# Altium footprint library PcbLib1.PcbLib: 35 footprints (part 3 of 3)
Each footprint in its own frame and in the unit in brackets; x right, y up, seen from the top. Pads: shape width x height; smd on the part's side, far side on the other; paste and mask are expansions set on the pad; w line width, h text height; cw(c..) or ccw(c..) is an arc to the next point about the centre after c.
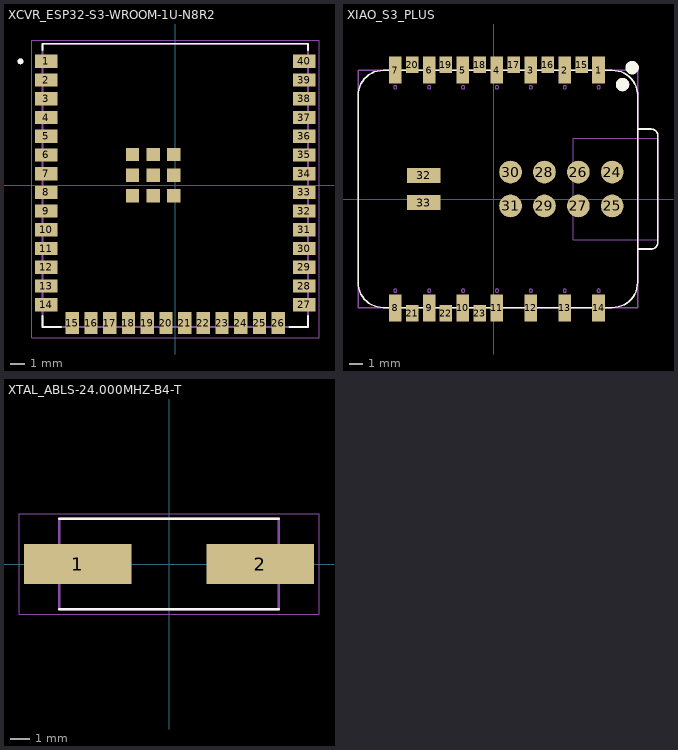
[diagram p2: the footprints below, top view; thin cyan lines are the x and y axes]

## XCVR_ESP32-S3-WROOM-1U-N8R2 [mm]
height 3.35
pads (49):
  rect 1.5x0.9 smd: 1(-8.75,8.41) 2(-8.75,7.14) 3(-8.75,5.87) 4(-8.75,4.6) 5(-8.75,3.33) 6(-8.75,2.06) 7(-8.75,0.79) 8(-8.75,-0.48) 9(-8.75,-1.75) 10(-8.75,-3.02) 11(-8.75,-4.29) 12(-8.75,-5.56) 13(-8.75,-6.83) 14(-8.75,-8.1) 27(8.75,-8.1) 28(8.75,-6.83) 29(8.75,-5.56) 30(8.75,-4.29) 31(8.75,-3.02) 32(8.75,-1.75) 33(8.75,-0.48) 34(8.75,0.79) 35(8.75,2.06) 36(8.75,3.33) 37(8.75,4.6) 38(8.75,5.87) 39(8.75,7.14) 40(8.75,8.41)
  rect 0.9x1.5 smd: 15(-6.985,-9.35) 16(-5.715,-9.35) 17(-4.445,-9.35) 18(-3.175,-9.35) 19(-1.905,-9.35) 20(-0.635,-9.35) 21(0.635,-9.35) 22(1.905,-9.35) 23(3.175,-9.35) 24(4.445,-9.35) 25(5.715,-9.35) 26(6.985,-9.35)
  rect 0.9x0.9 smd: 41_1(-2.9,2.09) 41_2(-1.5,2.09) 41_3(-0.1,2.09) 41_4(-2.9,0.69) 41_5(-1.5,0.69) 41_6(-0.1,0.69) 41_7(-2.9,-0.71) 41_8(-1.5,-0.71) 41_9(-0.1,-0.71)
Top Overlay:
  circle w0.2: c-10.5,8.41 r0.1
  lines w0.127: -9,-8.87 -9,-9.6 -7.755,-9.6 ; -9,9.18 -9,9.6 9,9.6 9,9.18 ; 7.755,-9.6 9,-9.6 9,-8.87
Mechanical 13:
  circle w0.2: c-10.5,8.41 r0.1
  lines w0.127: -9,-9.6 -9,9.6 9,9.6 9,-9.6 -9,-9.6
Mechanical 15:
  lines w0.05: -9.75,-10.35 9.75,-10.35 9.75,9.85 -9.75,9.85 -9.75,-10.35
3D body "step_temp.STEP": height 3.35, standoff 0, extent -9,-9.6 9,9.6

## XIAO_S3_PLUS [mil]
pads (33):
  rect 37x80 smd: 1(309.49,380.93) 2(209.49,380.93) 3(109.49,380.93) 4(9.49,380.93) 5(-90.51,380.93) 6(-189.51,380.93) 7(-289.51,380.93) 8(-289.51,-321.07) 9(-189.51,-321.07) 10(-90.51,-321.07) 11(9.49,-321.07) 12(109.49,-321.07) 13(209.49,-321.07) 14(309.49,-321.07)
  rect 37x48.5 smd: 15(259.49,396.67) 16(159.49,396.67) 17(59.49,396.67) 18(-40.51,396.67) 19(-140.51,396.67) 20(-240.51,396.67) 21(-240.51,-336.82) 22(-140.51,-336.82) 23(-40.51,-336.82)
  round 66.93 smd paste+0 mask+2: 24(350,80) 25(350,-20) 26(250,80) 27(250,-20) 28(150,80) 29(150,-20) 30(50,80) 31(50,-20)
  rect 98.43x43.31 smd: 32(-206,70) 33(-206,-10)
Top Overlay:
  lines w3.94: 350,380 -325,380 ccw(c-325,305) -400,305 -400,-245 ccw(c-325,-245) -325,-320 350,-320 ccw(c350,-245) 425,-245 425,305 ; 350.16,380 cw(c350.16,305) 425.16,305
  lines w5: 425,-147.32 464.76,-147.32 ccw(c464.76,-127.63) 484.45,-127.64 484.45,187.14 ccw(c464.76,187.14) 464.77,206.82 ; 425,206.97 464.77,206.82
  lines w19.68: 380.17,328 cw(c380.37,338) 380.39,328 ; 408.4,378 cw(c408.6,388) 408.62,378
Mechanical 1:
  lines w1: -290.22,-324.99 cw(c-290,-320) -290,-325 ; -290.22,-274.99 cw(c-290,-270) -290,-275 ; -290.22,325.01 cw(c-290,330) -290,325 ; -290.22,375.01 cw(c-290,380) -290,375 ; -190.22,-324.99 cw(c-190,-320) -190,-325 ; -190.22,-274.99 cw(c-190,-270) -190,-275 ; -190.22,325.01 cw(c-190,330) -190,325 ; -190.22,375.01 cw(c-190,380) -190,375 ; -90.22,-324.99 cw(c-90,-320) -90,-325 ; -90.22,-274.99 cw(c-90,-270) -90,-275 ; -90.22,325.01 cw(c-90,330) -90,325 ; -90.22,375.01 cw(c-90,380) -90,375 ; 9.78,-324.99 cw(c10,-320) 10,-325 ; 9.78,-274.99 cw(c10,-270) 10,-275 ; 9.78,325.01 cw(c10,330) 10,325 ; 9.78,375.01 cw(c10,380) 10,375 ; 109.78,-324.99 cw(c110,-320) 110,-325 ; 109.78,-274.99 cw(c110,-270) 110,-275 ; 109.78,325.01 cw(c110,330) 110,325 ; 109.78,375.01 cw(c110,380) 110,375 ; 209.78,-324.99 cw(c210,-320) 210,-325 ; 209.78,-274.99 cw(c210,-270) 210,-275 ; 209.78,325.01 cw(c210,330) 210,325 ; 209.78,375.01 cw(c210,380) 210,375 ; 309.78,-324.99 cw(c310,-320) 310,-325 ; 309.78,-274.99 cw(c310,-270) 310,-275 ; 309.78,325.01 cw(c310,330) 310,325 ; 309.78,375.01 cw(c310,380) 310,375 ; -400,-245 ccw(c-325,-245) -325,-320 350,-320 ccw(c350,-245) 425,-245 425,305 ccw(c350,305) 350,380 -325,380 ccw(c-325,305) -400,305 -400,-245
  lines w1.97: -399.45,-320.39 -399.45,380.39 425.35,380.39 425.35,-320.39 -399.45,-320.39
  lines w3: 235,-120 235,180 485,180 485,-120 235,-120
  lines w3.94: -399.45,-320.39 -399.45,380.39 425.35,380.39 425.35,-320.39 -399.45,-320.39

## XTAL_ABLS-24.000MHZ-B4-T [mm]
height 4.2
pads (2):
  rect 5.6x2.1 smd: 1(-4.75,0) 2(4.75,0)
Top Overlay:
  lines w0.127: -5.7,-2.35 5.7,-2.35 ; -5.7,2.35 5.7,2.35
Mechanical 13:
  lines w0.127: -5.7,-2.35 5.7,-2.35 5.7,2.35 -5.7,2.35 -5.7,-2.35
Mechanical 15:
  lines w0.05: -7.8,-2.6 7.8,-2.6 7.8,2.6 -7.8,2.6 -7.8,-2.6
3D body "step_temp.STEP": height 4.2, standoff 0, extent -6.35,-2.35 6.35,2.35